# EAGLE library part 1190366 (library 1190366)
5 Position Wire to Board Terminal Block 30 (150) Angle with Board 0.197" (5.00mm) Through Hole Source: Datasheet <https://www.phoenixcontact.com/online/portal/us?uri=pxc-oc-itemdetail:pid=1190366&library=usen&tab=1>
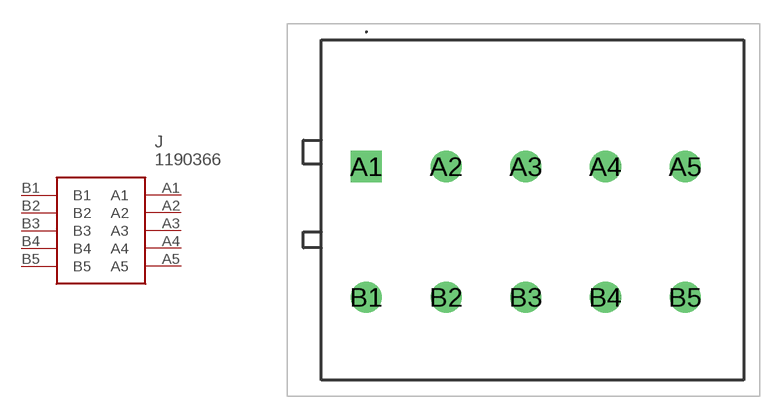
[diagram p0: symbol with the pads of 1190366; footprint 1190366]

Designator prefix J

## 1190366 (Description: 5 Position Wire to Board Terminal Block 30 (150) Angle with Board 0.197" (5.00mm) Through Hole; Height: 20.28mm; Manufacturer_Name: Phoenix Contact; Manufacturer_Part_Number: 1190366; Mouser_Part_Number: 651-1190366; Mouser_Price-Stock: https://www.mouser.co.uk/ProductDetail/Phoenix-Contact/1190366?qs=QNEnbhJQKvbQxItN%252B93NHg%3D%3D)  [1190366]
A1  A1
A2  A2
A3  A3
A4  A4
A5  A5
B1  B1
B2  B2
B3  B3
B4  B4
B5  B5

## Footprint 1190366 (pad centres in mm)
1190366-1
drill 1.3 pad 1.95 square: A1 0,0
drill 1.3 pad 1.95: A2 5,0; A3 10,0; A4 15,0; A5 20,0; B1 0,-8.2; B2 5,-8.2; B3 10,-8.2; B4 15,-8.2; B5 20,-8.2